# Altium footprint library WE-LQFS.PcbLib: 3 footprints
Each footprint in its own frame and in the unit in brackets; x right, y up, seen from the top. Pads: shape width x height; smd on the part's side, far side on the other; paste and mask are expansions set on the pad; w line width, h text height; cw(c..) or ccw(c..) is an arc to the next point about the centre after c.
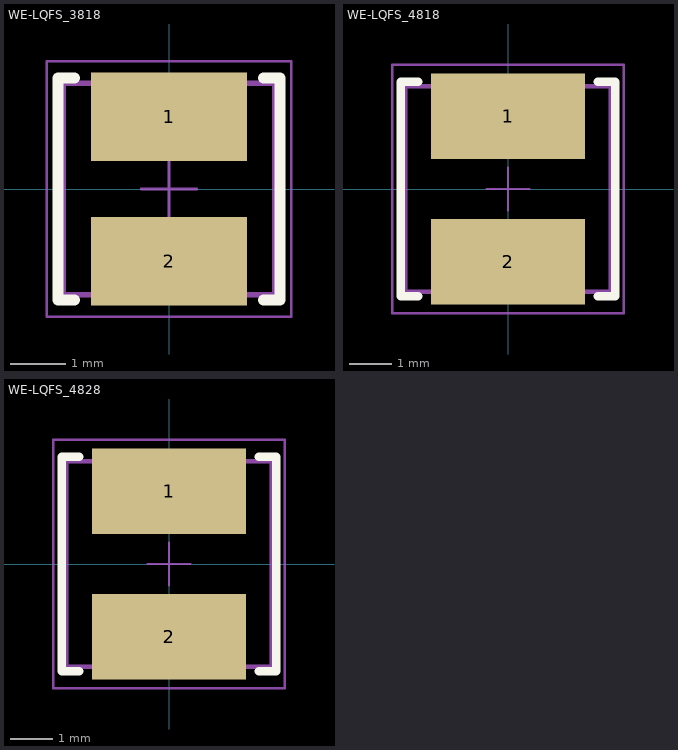
[diagram p0: the footprints below, top view; thin cyan lines are the x and y axes]

## WE-LQFS_3818 [mm] "SMT Power Inductor, body 3.8x3.8mm"
height 1.8
pads (2):
  rect 2.8x1.6 smd: 1(0,1.3) 2(0,-1.3)
Top Overlay:
  lines w0.2: -1.7,-2 -2,-2 -2,2 -1.7,2 ; 1.7,-2 2,-2 2,2 1.7,2
Mechanical 13:
  lines w0.1: -1.9,-1.9 -1.9,1.9 1.9,1.9 1.9,-1.9 -1.9,-1.9
Mechanical 15:
  lines w0.05: -0.5,0 0.5,0 ; 0,-0.5 0,0.5 ; -2.2,-2.3 2.2,-2.3 2.2,2.3 -2.2,2.3 -2.2,-2.3
3D body "3818_7440603.stp": height 1.8, standoff 0, extent -1.9,-1.9 1.9,1.9

## WE-LQFS_4818 [mm] "SMT Power Inductor, body 4.8x4.8mm"
height 1.8
pads (2):
  rect 3.6x2 smd: 1(0,1.7) 2(0,-1.7)
Top Overlay:
  lines w0.2: -2.1,-2.5 -2.5,-2.5 -2.5,2.5 -2.1,2.5 ; 2.1,-2.5 2.5,-2.5 2.5,2.5 2.1,2.5
Mechanical 13:
  lines w0.1: -2.4,-2.4 2.4,-2.4 2.4,2.4 -2.4,2.4 -2.4,-2.4
Mechanical 15:
  lines w0.05: -0.5,0 0.5,0 ; 0,-0.5 0,0.5 ; -2.7,-2.9 -2.7,2.9 2.7,2.9 2.7,-2.9 -2.7,-2.9
3D body "4818_74406042.stp": height 1.8, standoff 0, extent -2.4,-2.4 2.4,2.4

## WE-LQFS_4828 [mm] "SMT Power Inductor, body 4.8x4.8mm"
height 2.8
pads (2):
  rect 3.6x2 smd: 1(0,1.7) 2(0,-1.7)
Top Overlay:
  lines w0.2: -2.1,-2.5 -2.5,-2.5 -2.5,2.5 -2.1,2.5 ; 2.1,-2.5 2.5,-2.5 2.5,2.5 2.1,2.5
Mechanical 13:
  lines w0.1: -2.4,-2.4 -2.4,2.4 2.4,2.4 2.4,-2.4 -2.4,-2.4
Mechanical 15:
  lines w0.05: -0.5,0 0.5,0 ; 0,-0.5 0,0.5 ; -2.7,-2.9 2.7,-2.9 2.7,2.9 -2.7,2.9 -2.7,-2.9
3D body "4828_74406043.stp": height 2.8, standoff 0, extent -2.4,-2.4 2.4,2.4